# EAGLE library part TI-TIVA_JTAG- (library LinkedLibrary52101)
JTAG HEADER 10-PIN
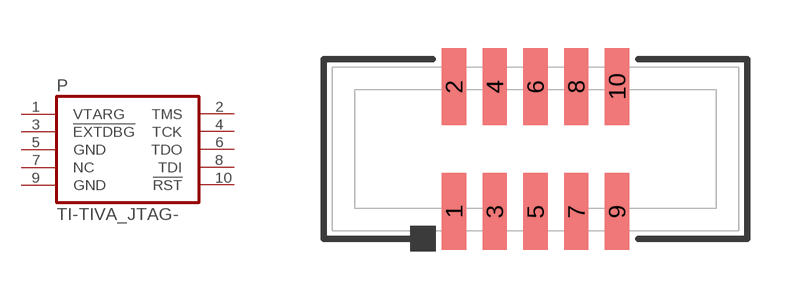
[diagram p6: symbol with the pads of TI-TIVA_3220-10-0300-00; footprint TI-TIVA_3220-10-0300-00]

Designator prefix P

## TI-TIVA_JTAG-3220-10-0300-00  [TI-TIVA_3220-10-0300-00]
1  VTARG
2  TMS
3  !EXTDBG!
4  TCK
5  GND
6  TDO
7  NC
8  TDI
9  GND
10  !RST!

## Footprint TI-TIVA_3220-10-0300-00 (pad centres in mm)
SMD SHROUDED HEADER 10 PIN, 0.05" PITCH Source: CNC Tech
smd 0.76 x 2.4: 1 -2.54,-1.95; 2 -2.54,1.95; 3 -1.27,-1.95; 4 -1.27,1.95; 5 0,-1.95; 6 0,1.95; 7 1.27,-1.95; 8 1.27,1.95; 9 2.54,-1.95; 10 2.54,1.95